# EAGLE library part LM393PWRG4 (library LM393PWRG4)
Dual differential comparator, commercial grade Source: Datasheet <http://www.ti.com/lit/gpn/LM393>
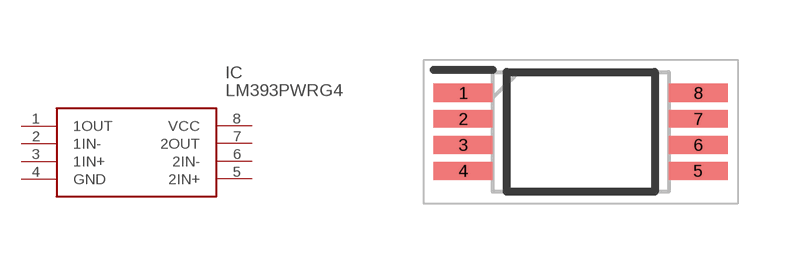
[diagram p0: symbol with the pads of SOP65P640X120-8N; footprint SOP65P640X120-8N]

Designator prefix IC

## LM393PWRG4 (Arrow_Part_Number: LM393PWRG4; Arrow_Price-Stock: https://www.arrow.com/en/products/lm393pwrg4/texas-instruments; Description: Dual differential comparator, commercial grade; Height: 1.2mm; Manufacturer_Name: Texas Instruments; Manufacturer_Part_Number: LM393PWRG4; Mouser_Part_Number: 595-LM393PWRG4; Mouser_Price-Stock: https://www.mouser.co.uk/ProductDetail/Texas-Instruments/LM393PWRG4?qs=VBduBm9rCJQGUzM7kHR1Qw%3D%3D)  [SOP65P640X120-8N]
1  1OUT
2  1IN-
3  1IN+
4  GND
5  2IN+
6  2IN-
7  2OUT
8  VCC

## Footprint SOP65P640X120-8N (pad centres in mm)
PW (R-PDSO-G8)
smd 1.475 x 0.45: 1 -2.938,0.975; 2 -2.938,0.325; 3 -2.938,-0.325; 4 -2.938,-0.975; 5 2.938,-0.975; 6 2.938,-0.325; 7 2.938,0.325; 8 2.938,0.975